# Altium integrated library ST Interface Transistor Driver.IntLib: 2 symbols
Pins are listed as number, name and electrical type; pins without a type are passive.

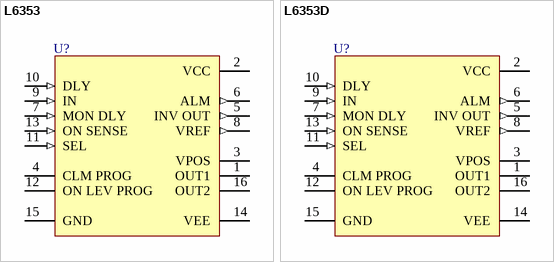
[diagram p0: symbols L6353 to L6353D]

## L6353
designator U?
Smart Driver For Power MOS &IGBT; Published: 8-Jun-2000; LatestRevisionDate: 6-Jun-2005; LatestRevisionNote: Stylized 3D Model Added.; DatasheetDocument: Nov-1996; PackageDocument: Apr-1996; PackageReference: DIP16; Publisher: Altium Limited; ComponentLink1Description: Manufacturer Link; ComponentLink1URL: http://www.st.com/
footprint DIP16 (DIP; 16 Leads; Row Spacing 7.62 mm; Pitch 2.54 mm)
3D model DIP16 (DIP; 16 Leads; Row Spacing 7.62 mm; Pitch 2.54 mm)
pins: 1 OUT1 (oe), 2 VCC (power), 3 VPOS (oc), 4 CLM PROG, 5 INV OUT (out), 6 ALM (out), 7 MON DLY (in), 8 VREF (out), 9 IN (in), 10 DLY (in), 11 SEL (in), 12 ON LEV PROG, 13 ON SENSE (in), 14 VEE (power), 15 GND (power), 16 OUT2 (oc)

## L6353D
designator U?
Smart Driver For Power MOS &IGBT; Published: 8-Jun-2000; LatestRevisionDate: 6-Jun-2005; LatestRevisionNote: Stylized 3D Model Added.; DatasheetDocument: Nov-1996; PackageDocument: May-1998; PackageReference: SO16; Publisher: Altium Limited; ComponentLink1Description: Manufacturer Link; ComponentLink1URL: http://www.st.com/
footprint SO16 (Small Outline; 16 Leads; Body Width 3.9 mm; Pitch 1.27 mm)
3D model SO16 (Small Outline; 16 Leads; Body Width 3.9 mm; Pitch 1.27 mm)
pins: 1 OUT1 (oe), 2 VCC (power), 3 VPOS (oc), 4 CLM PROG, 5 INV OUT (out), 6 ALM (out), 7 MON DLY (in), 8 VREF (out), 9 IN (in), 10 DLY (in), 11 SEL (in), 12 ON LEV PROG, 13 ON SENSE (in), 14 VEE (power), 15 GND (power), 16 OUT2 (oc)